# EAGLE library part LCD_4X20 (library BA Parts)
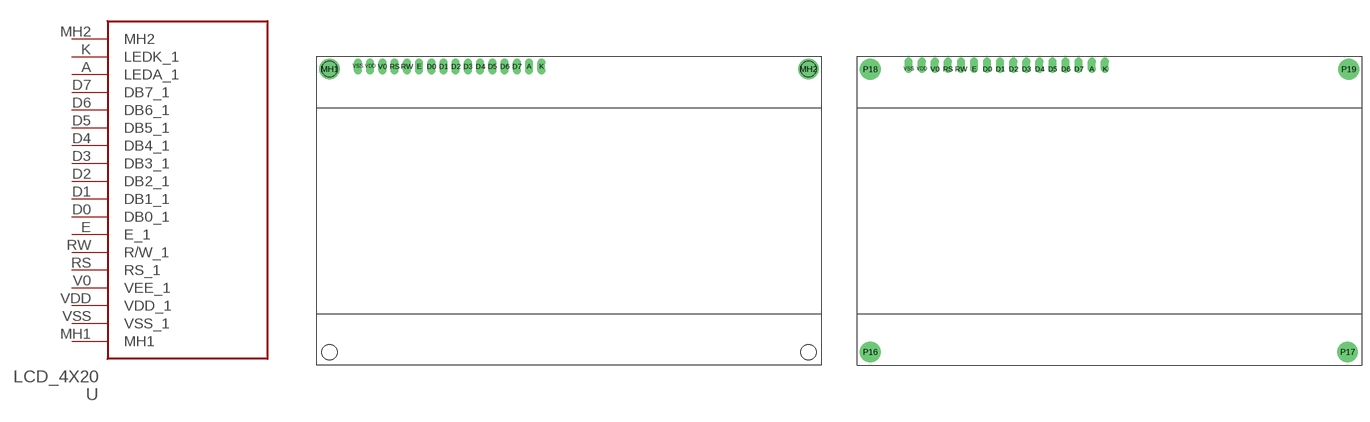
[diagram p0: symbol with the pads of LCD_4X20; footprints LCD_4X20, LCD]

Designator prefix -

## LCD_4X20  [LCD_4X20]
A  LEDA_1
D0  DB0_1
D1  DB1_1
D2  DB2_1
D3  DB3_1
D4  DB4_1
D5  DB5_1
D6  DB6_1
D7  DB7_1
E  E_1
K  LEDK_1
MH1  MH1
MH2  MH2
RS  RS_1
RW  R/W_1
V0  VEE_1
VDD  VDD_1
VSS  VSS_1

## LCD_4X202004A  [LCD]
A  LEDA_1
D0  DB0_1
D1  DB1_1
D2  DB2_1
D3  DB3_1
D4  DB4_1
D5  DB5_1
D6  DB6_1
D7  DB7_1
E  E_1
K  LEDK_1
P16  MH1
P17  MH1
P18  MH2
P19  MH2
RS  RS_1
RW  R/W_1
V0  VEE_1
VDD  VDD_1
VSS  VSS_1

## Footprint LCD_4X20 (pad centres in mm)
drill 1 long: A 41.25,58; D0 22.25,58; D1 24.625,58; D2 27,58; D3 29.375,58; D4 31.75,58; D5 34.125,58; D6 36.5,58; D7 38.875,58; E 19.875,58; K 43.625,58; RS 15.125,58; RW 17.5,58; V0 12.75,58; VDD 10.375,58; VSS 8,58
drill 3: MH1 2.5,57.5; MH2 95.5,57.5
hole 3 at 2.5,2.5
hole 3 at 2.5,57.5
hole 3 at 95.5,57.5
hole 3 at 95.5,2.5

## Footprint LCD (pad centres in mm)
drill 1 offset: A 45.56,57.5; D0 25.24,57.5; D1 27.78,57.5; D2 30.32,57.5; D3 32.86,57.5; D4 35.4,57.5; D5 37.94,57.5; D6 40.48,57.5; D7 43.02,57.5; E 22.7,57.5; K 48.1,57.5; RS 17.62,57.5; RW 20.16,57.5; V0 15.08,57.5; VDD 12.54,57.5; VSS 10,57.5
drill 3: P16 2.54,2.54; P17 95.25,2.54; P18 2.54,57.46; P19 95.46,57.46